# EAGLE library part MSP430G22X0 (library Rohit_Libs)
Ti MSP430g22x0 8 pin Tiny MSP430 Devices Datasheet <http://www.ti.com/lit/ds/symlink/msp430g2230.pdf> Created by : Rohit Gupta <http://indiantinker.wordpress.com/>
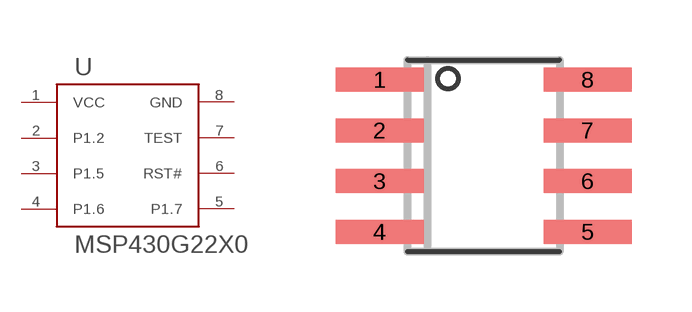
[diagram p0: symbol with the pads of MSP430G22X0; footprint MSP430G22X0]

Designator prefix -

## MSP430G22X0  [MSP430G22X0]
1  VCC  pwr
2  P1.2  pas
3  P1.5  pas
4  P1.6  pas
5  P1.7  pas
6  RST#  pas
7  TEST  pas
8  GND  pwr

## Footprint MSP430G22X0 (pad centres in mm)
smd 2.2 x 0.6: 1 -2.6,1.905; 2 -2.6,0.635; 3 -2.6,-0.635; 4 -2.6,-1.905; 5 2.6,-1.905; 6 2.6,-0.635; 7 2.6,0.635; 8 2.6,1.905